# EAGLE library part PCT2075 (library comms)
I2C-bus Fm+, 1 degree C accuracy, digital temperature sensor and thermal watchdog
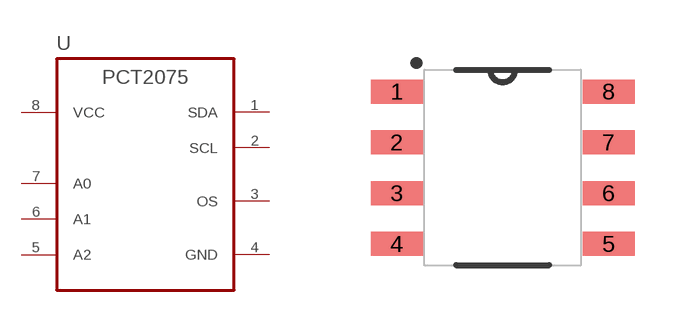
[diagram p8: symbol with the pads of SOIC127P130X0600-8N; footprint SOIC127P130X0600-8N]

Designator prefix U

## PCT2075D,118SOIC8 (INTERFACE: I2C; MANUFACTURER: NXP; MANUFACTURER_PN: PCT2075D,118; RESOLUTION: 10b; VALUE: PCT2075D,118; VENDOR: Digi-key; VENDOR_PN: 568-10219-1-ND)  [SOIC127P130X0600-8N]
1  SDA
2  SCL  in
3  OS  out
4  GND  pwr
5  A2  in
6  A1  in
7  A0  in
8  VCC  pwr

## Footprint SOIC127P130X0600-8N (pad centres in mm)
smd 1.3 x 0.6: 1 -2.65,1.905; 2 -2.65,0.635; 3 -2.65,-0.635; 4 -2.65,-1.905; 5 2.65,-1.905; 6 2.65,-0.635; 7 2.65,0.635; 8 2.65,1.905